# EAGLE library part DISTORTION-V1.4 (library XM8)
Xonik Soft clipping distortion v1.4 Internal gain, output is at unity gain and not inverted Is designed for +/-12V but runs from +/-15V as well
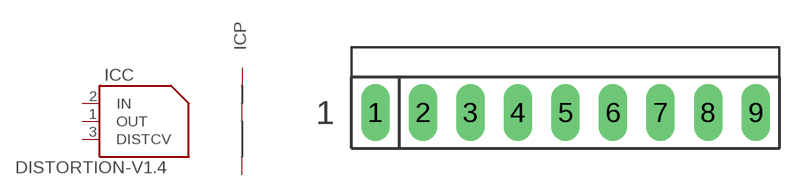
[diagram p23: symbol with the pads of XM8-DISTORTION-V1.3V; footprint XM8-DISTORTION-V1.3V]

Designator prefix IC; gates P=XM8-PWR C=XM8-DISTORTION-V1.3

## DISTORTION-V1.4  [XM8-DISTORTION-V1.3V]
1  C:OUT  out
2  C:IN
3  C:DISTCV
7  P:+V  pwr
8  P:AGND  pwr
9  P:-V  pwr

## Footprint XM8-DISTORTION-V1.3V (pad centres in mm)
Xonik Soft clipping distortion v1.3/4, vertical mount
drill 1.016 long: 1 -10.16,0; 2 -7.62,0; 3 -5.08,0; 4 -2.54,0; 5 0,0; 6 2.54,0; 7 5.08,0; 8 7.62,0; 9 10.16,0